# EAGLE library part TPS60150 (library ARVP)
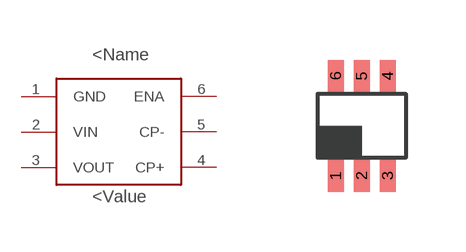
[diagram p3: symbol with the pads of DRV(S-PWSON-N6); footprint DRV(S-PWSON-N6)]

Designator prefix -

## TPS60150  [DRV(S-PWSON-N6)]
1  GND
2  VIN
3  VOUT
4  CP+
5  CP-
6  ENA

## Footprint DRV(S-PWSON-N6) (pad centres in mm)
DDC (R-PDSO-G6) PLASTIC SMALL OUTLINE PACKAGE Source: http://focus.ti.com/lit/ds/symlink/tps61070.pdf
smd 0.4 x 0.8: 1 -0.65,-1.25; 2 0,-1.25; 3 0.65,-1.25; 4 0.65,1.25; 5 0,1.25; 6 -0.65,1.25